# Altium schematic symbol library STM32G030K6T6.SchLib: 1 symbol
Pins are listed as number, name and electrical type; pins without a type are passive.

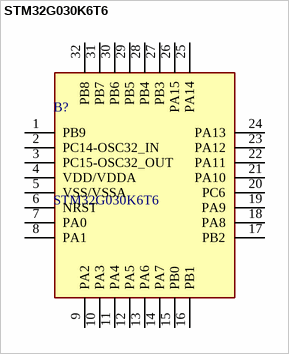
[diagram p0: symbol STM32G030K6T6]

## STM32G030K6T6
designator B?
STMICROELECTRONICS - STM32G030K6T6 - ARM MCU, STM32 Family STM32G0 Series Microcontrollers, ARM Cortex-M0+, 32bit, 64 MHz, 32 KB, 8 KB; Geometry.Height: 1.6mm; Mouser Part Number: 511-STM32G030K6T6; Mouser Price/Stock: https://www.mouser.co.uk/ProductDetail/STMicroelectronics/STM32G030K6T6?qs=uwxL4vQweFPeOf7U32Wkbw%3D%3D; Manufacturer_Name: STMicroelectronics; Manufacturer_Part_Number: STM32G030K6T6; Datasheet Link: https://www.st.com/resource/en/datasheet/stm32g030c6.pdf
footprint QFP80P900X900X160-32N
pins: 1 PB9, 2 PC14-OSC32_IN, 3 PC15-OSC32_OUT, 4 VDD/VDDA, 5 VSS/VSSA, 6 NRST, 7 PA0, 8 PA1, 9 PA2, 10 PA3, 11 PA4, 12 PA5, 13 PA6, 14 PA7, 15 PB0, 16 PB1, 17 PB2, 18 PA8, 19 PA9, 20 PC6, 21 PA10, 22 PA11, 23 PA12, 24 PA13, 25 PA14, 26 PA15, 27 PB3, 28 PB4, 29 PB5, 30 PB6, 31 PB7, 32 PB8